# Altium schematic symbol library ST25RU3993_RF_MODULE.SCHLIB: 256 symbols (part 2 of 8)
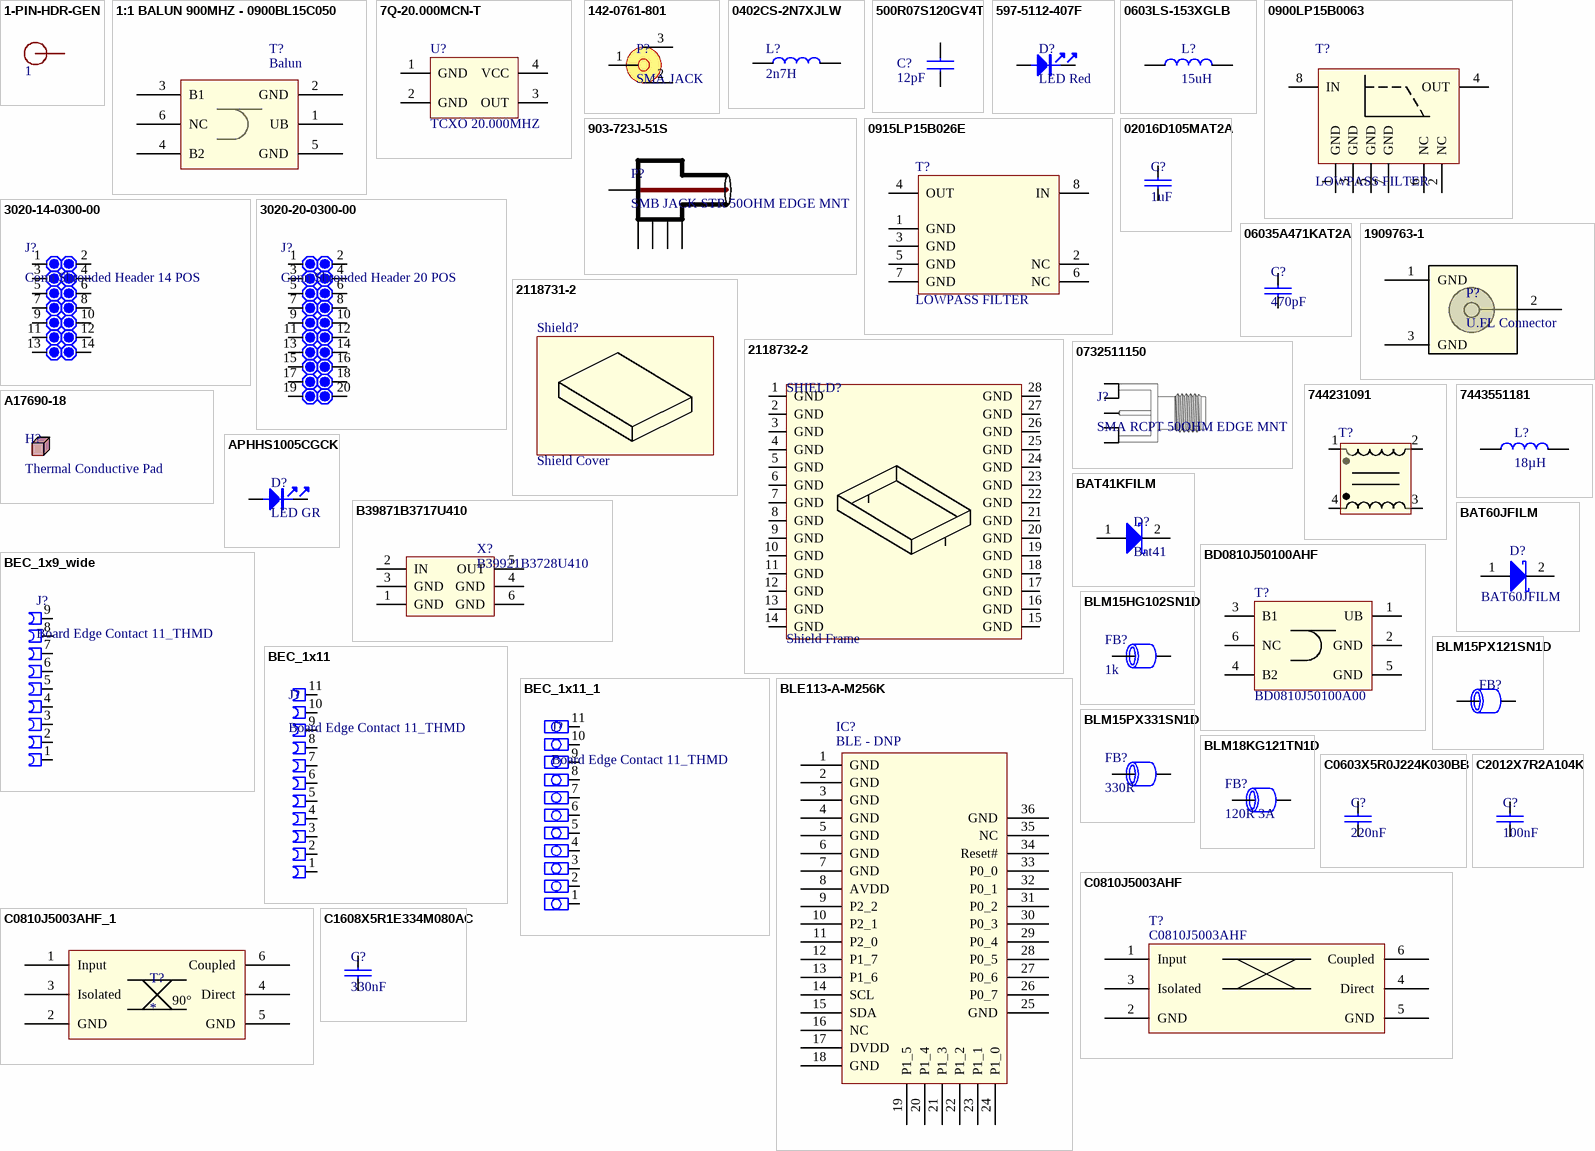
[diagram p7: symbols 1-PIN-HDR-GEN to C2012X7R2A104K]

## C1608X5R1E334M080AC
designator C?, comment 330nF
CAP CER 0.33UF 25V X5R 0603; Manufacturer: TDK; Manufacturer Part Number: C1608X5R1E334M080AC; Dielectric Material: Ceramic; Tolerance: 20%; Supplier 1: Digi-Key; Supplier Part Number 1: 445-5143-1-ND; RoHS: Yes; Stock: 37; Pricing: 1 = 0.14000, 10 = 0.10000, 100 = 0.04690, 500 = 0.03290, 1000 = 0.02724 (USD); Mount: Surface Mount; Case/Package: 0603; Number of Pins: 2; Weight: 7.1E-05oz; Case Code (Imperial): 0603; Case Code (Metric): 1608; Min Operating Temperature: -55°C; Max Operating Temperature: 85°C; Packaging: Tape and Reel; Capacitance: 330nF; Voltage Rating (DC): 25V; Voltage Rating: 25V; Dielectric: X5R; Termination: SMD/SMT; Package Quantity: 4000; Composition: Ceramic; Length: 1.6mm; Width: 0.8mm; Depth: 0.8mm; Thickness: 0.037inch; Lead Free: Lead Free; ComponentLink1URL: http://www.mouser.com/ds/2/400/lcc_commercial_general_en-837201.pdf; ComponentLink1Description: http://www.mouser.com/ds/2/400/lcc_commercial_general_en-837201.pdf; ComponentLink2URL: https://product.tdk.com/en/products/common/pdf/mlcc_partnumber_description.pdf; ComponentLink2Description: https://product.tdk.com/en/products/common/pdf/mlcc_partnumber_description.pdf; ComponentLink3URL: https://product.tdk.com/info/en/catalog/spec/mlccspec_commercial_general_midvoltage_en.pdf; ComponentLink3Description: https://product.tdk.com/info/en/catalog/spec/mlccspec_commercial_general_midvoltage_en.pdf; Supplier 2: Future Electronics; Supplier Part Number 2: C2012X7R2A104K125AA-CUTT; Radiation Hardening: No; REACH SVHC: No SVHC; ComponentLink4URL: https://www.verical.com/server-webapp/html/getDatasheet?partID=149415; ComponentLink4Description: https://www.verical.com/server-webapp/html/getDatasheet?partID=149415; ComponentLink5URL: http://components.arrow.com/part/dataview/41371923S8438219N1165; ComponentLink5Description: http://components.arrow.com/part/dataview/41371923S8438219N1165; ComponentLink6URL: http://www.onlinecomponents.com/productFiles/mf-TDK/517print_detail_pdf.phplangenpart_noc2012x7r2a104k125aaimp_unit_xmhz.pdf; ComponentLink6Description: http://www.onlinecomponents.com/productFiles/mf-TDK/517print_detail_pdf.phplangenpart_noc2012x7r2a104k125aaimp_unit_xmhz.pdf; ComponentLink7URL: http://www.farnell.com/datasheets/1484596.pdf; ComponentLink7Description: http://www.farnell.com/datasheets/1484596.pdf; ComponentLink8URL: http://www.tdk.com/pdf/general_B11.pdf; ComponentLink8Description: http://www.tdk.com/pdf/general_B11.pdf; ComponentLink9URL: http://www.farnell.com/datasheets/1936671.pdf; ComponentLink9Description: http://www.farnell.com/datasheets/1936671.pdf
footprint C0603
pins: 1, 2

## C2012X7R2A104K
designator C?, comment 100nF
Cap Ceramic 0.1uF 100V X7R 10% SMD 0805 125C; Manufacturer: TDK; Manufacturer Part Number: C2012X7R2A104K; Voltage Rating (DC): 50V; Supplier 1: Future Electronics; Supplier Part Number 1: C2012X7R2A104K125AA-CUTT; RoHS: Yes; Stock: 218; Pricing: 1 = 0.05800, 50 = 0.04900, 100 = 0.04800, 250 = 0.04600, 500 = 0.04200 (USD); Mount: Surface Mount; Case/Package: 0805; Number of Pins: 2; Case Code (Imperial): 0805; Case Code (Metric): 2012; Min Operating Temperature: -55°C; Max Operating Temperature: 125°C; Capacitance: 100nF; Tolerance: 10%; Voltage Rating: 100V; Dielectric: X7R; Packaging: Tape and Reel; Termination: SMD/SMT; Package Quantity: 2000; Length: 2mm; Depth: 1.25mm; Radiation Hardening: No; REACH SVHC: No SVHC; ComponentLink1URL: https://www.verical.com/server-webapp/html/getDatasheet?partID=149415; ComponentLink1Description: https://www.verical.com/server-webapp/html/getDatasheet?partID=149415; ComponentLink2URL: http://components.arrow.com/part/dataview/41371923S8438219N1165; ComponentLink2Description: http://components.arrow.com/part/dataview/41371923S8438219N1165; ComponentLink3URL: http://www.onlinecomponents.com/productFiles/mf-TDK/517print_detail_pdf.phplangenpart_noc2012x7r2a104k125aaimp_unit_xmhz.pdf; ComponentLink3Description: http://www.onlinecomponents.com/productFiles/mf-TDK/517print_detail_pdf.phplangenpart_noc2012x7r2a104k125aaimp_unit_xmhz.pdf; ComponentLink4URL: http://www.farnell.com/datasheets/1484596.pdf; ComponentLink4Description: http://www.farnell.com/datasheets/1484596.pdf; ComponentLink5URL: http://www.tdk.com/pdf/general_B11.pdf; ComponentLink5Description: http://www.tdk.com/pdf/general_B11.pdf; ComponentLink6URL: http://www.farnell.com/datasheets/1936671.pdf; ComponentLink6Description: http://www.farnell.com/datasheets/1936671.pdf; Supplier 2: Digi-Key; Supplier Part Number 2: 490-12752-1-ND; Voltage: 50V; Height: 0.85mm; Width: 0.049inch; Thickness: 0.037inch; ComponentLink7URL: http://search.murata.co.jp/Ceramy/image/img/A01X/partnumbering_e_01.pdf; ComponentLink7Description: http://search.murata.co.jp/Ceramy/image/img/A01X/partnumbering_e_01.pdf; ComponentLink8URL: http://www.mouser.com/ds/2/281/c02e-2905.pdf; ComponentLink8Description: http://www.mouser.com/ds/2/281/c02e-2905.pdf; ComponentLink9URL: http://psearch.murata.com/capacitor/product/GRM2195C1H133JA01%23.pdf; ComponentLink9Description: http://psearch.murata.com/capacitor/product/GRM2195C1H133JA01%23.pdf; ComponentLink10URL: http://datasheet.octopart.com/GRM2195C1H133JA01D-Murata-datasheet-14401791.pdf; ComponentLink10Description: http://datasheet.octopart.com/GRM2195C1H133JA01D-Murata-datasheet-14401791.pdf; ComponentLink11URL: http://datasheet.octopart.com/GRM2195C1H133JA01D-Murata-datasheet-8819587.pdf; ComponentLink11Description: http://datasheet.octopart.com/GRM2195C1H133JA01D-Murata-datasheet-8819587.pdf; ComponentLink12URL: http://datasheet.octopart.com/GRM2195C1H133JA01D-Murata-datasheet-10025737.pdf; ComponentLink12Description: http://datasheet.octopart.com/GRM2195C1H133JA01D-Murata-datasheet-10025737.pdf; ComponentLink13URL: http://datasheet.octopart.com/GRM2195C1H133JA01D-Murata-datasheet-11978611.pdf; ComponentLink13Description: http://datasheet.octopart.com/GRM2195C1H133JA01D-Murata-datasheet-11978611.pdf; ComponentLink14URL: http://datasheet.octopart.com/GRM2195C1H133JA01D-Murata-datasheet-12510076.pdf; ComponentLink14Description: http://datasheet.octopart.com/GRM2195C1H133JA01D-Murata-datasheet-12510076.pdf; ComponentLink15URL: http://datasheet.octopart.com/GRM2195C1H133JA01D-Murata-datasheet-12515295.pdf; ComponentLink15Description: http://datasheet.octopart.com/GRM2195C1H133JA01D-Murata-datasheet-12515295.pdf
footprint C0805-ss
pins: 1, 2

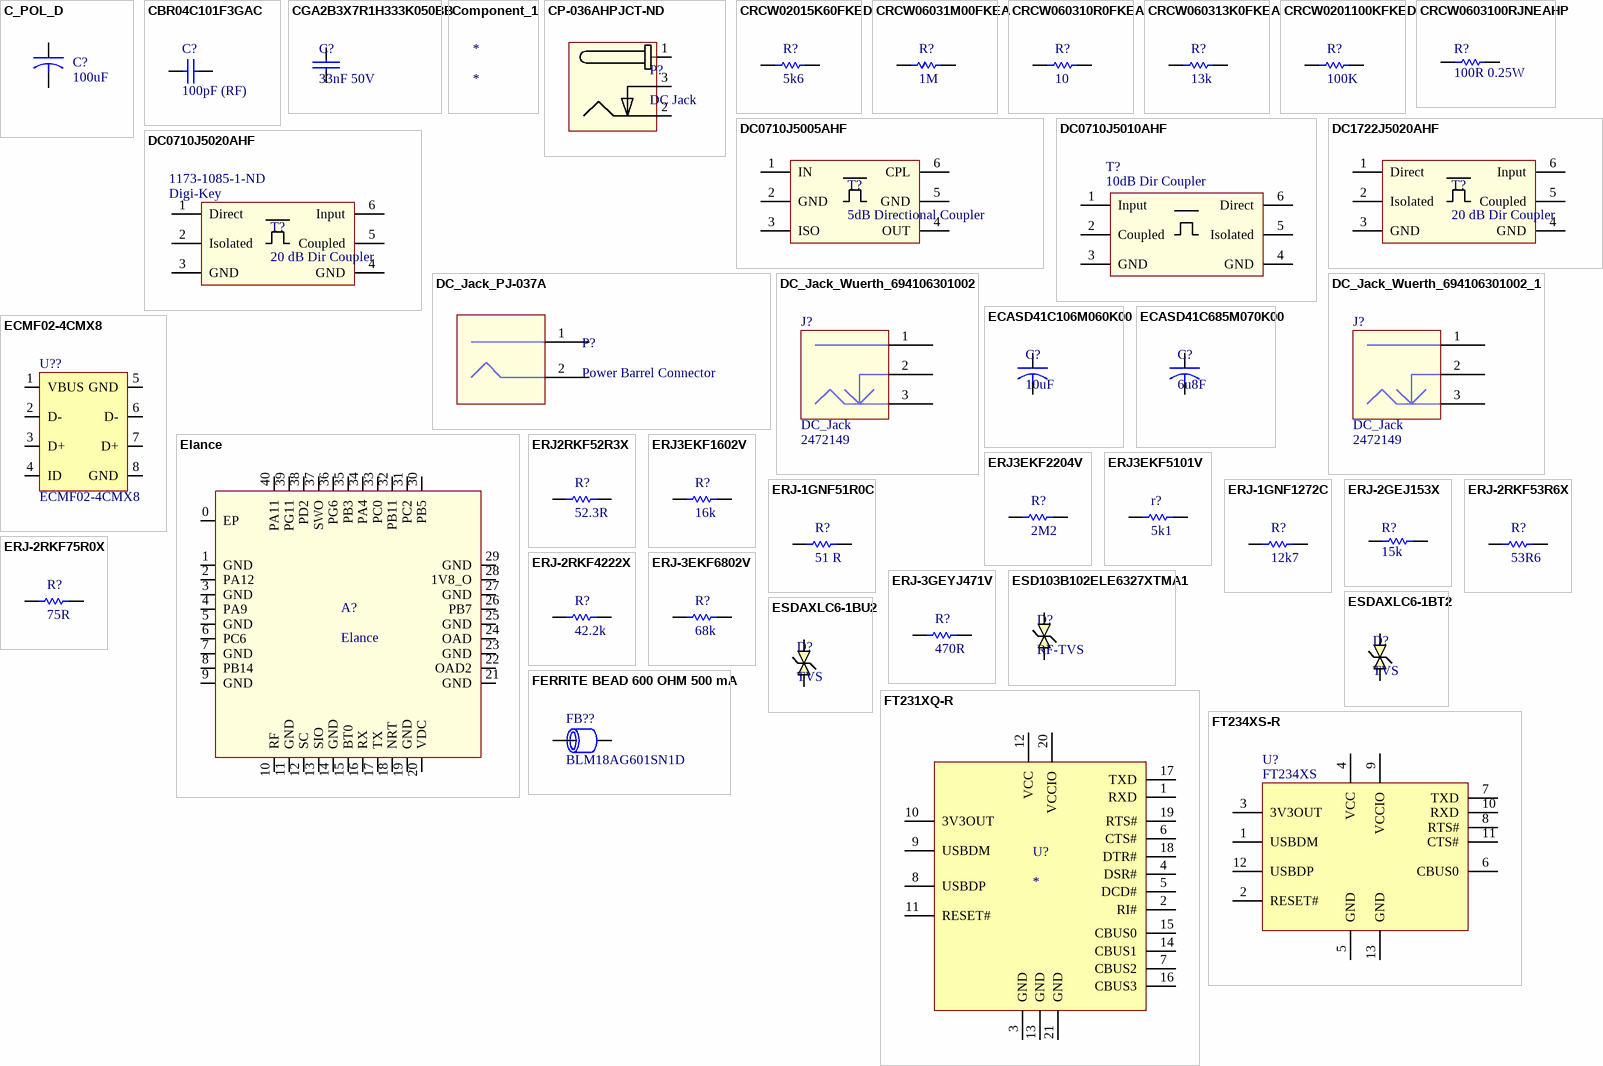
[diagram p1: symbols C_POL_D to FT234XS-R]

## C_POL_D
designator C?, comment 100uF
Manufacturer: Vishay Sprague; Manufacturer Part Number: TR3C107K010C0150; Manufacturer Size Code: C; Capacitance: 100µF; Voltage - Rated: 10V; Tolerance: ±10%; ESR (Equivalent Series Resistance): 150 mOhm; Type: Molded; Component_Description: 100uF, 10%, 10V, 150mOhm, SMD_C; Supplier 1: Digi-Key; Supplier Part Number 1: 718-1463-1-ND; RoHS: RoHS Compliant; Category: Capacitors; Stock 1: 12127; Pricing 1: 1=1.11, 10=0.914, 100=0.7355, 250=0.64632 (EUR); Operating Temperature: -55°C ~ 125°C; Mounting Type: Surface Mount; Package / Case: 2312 (6032 Metric); Size / Dimension: 0.236" L x 0.126" W (6.00mm x 3.20mm); Height - Seated (Max): 0.110" (2.79mm); Lead Spacing: -; Features: General Purpose; Packaging: Cut Tape (CT); Lifetime @ Temp.: -; ComponentLink1URL: http://www.vishay.com/doc?40080; ComponentLink1Description: http://www.vishay.com/doc?40080
footprint CP_SMD_C
footprint CP_SMD_D
pins: 1, 2

## CBR04C101F3GAC
designator C?, comment 100pF (RF)
CAP CER 100PF 25V NP0 0402; Manufacturer: Kemet; Manufacturer Part Number: CBR04C101F3GAC; Tolerance: ±1%; Temperature Coefficient: C0G, NP0; Type: Wirewound; Material - Core: Non-Magnetic; Inductance: 4.7nH; Current Rating: 750mA; Shielding: Unshielded; DC Resistance (DCR): 70 mOhm Max; Q @ Freq: 25 @ 250MHz; Frequency - Self Resonant: 8GHz; Frequency - Test: 100MHz; Exact Component Match: yes; Supplier 1: Digi-Key; Supplier Part Number 1: 399-11246-2-ND; RoHS: RoHS Compliant; Category: Capacitors; Stock 1: 70000; Pricing 1: 10000=0.07994, 20000=0.07744, 30000=0.07494, 50000=0.06995, 100000=0.06495 (EUR); Packaging: Tape & Reel (TR); Part Status: Active; Capacitance: 100pF; Voltage - Rated: 25V; Operating Temperature: -55°C ~ 125°C; Features: High Q, Low Loss; Ratings: -; Applications: RF, Microwave, High Frequency; Failure Rate: -; Mounting Type: Surface Mount, MLCC; Package / Case: 0402 (1005 Metric); Size / Dimension: 0.039" L x 0.020" W (1.00mm x 0.50mm); Height - Seated (Max): -; Thickness (Max): 0.022" (0.55mm); Lead Spacing: -; Lead Style: -; ComponentLink1URL: http://www.kemet.com/docfinder?Partnumber=CBR04C101F3GAC; ComponentLink1Description: http://www.kemet.com/docfinder?Partnumber=CBR04C101F3GAC; Supplier 2: Digi-Key; Supplier Part Number 2: 490-6825-1-ND; Stock 2: 30812; Pricing 2: 1=0.16, 10=0.149, 25=0.1336, 50=0.116, 100=0.104, 250=0.09652, 500=0.08912, 750=0.08467, 1000=0.07724 (EUR); Current - Saturation: -; ComponentLink2URL: http://search.murata.co.jp/Ceramy/image/img/PDF/ENG/L0075S0080LQW15A_00.pdf; ComponentLink2Description: http://search.murata.co.jp/Ceramy/image/img/PDF/ENG/L0075S0080LQW15A_00.pdf; Manufacturer 1: Kemet; Manufacturer Part Number 1: CBR04C101F3GAC
footprint C0402-RF
pins: 1, 2

## CGA2B3X7R1H333K050BB
designator C?, comment 33nF 50V
TDK         CGA2B3X7R1H333K050BB             SMD Multilayer Ceramic Capacitor, 0402 [1005 Metric], 0.033 F, 50 V,  10%, X7R, CGA Series; Exact Component Match: yes; Supplier 1: Digi-Key; Supplier Part Number 1: 445-6896-6-ND; Manufacturer: TDK; Manufacturer Part Number: CGA2B3X7R1H333K050BB; Stock: 0; Pricing: 1=0.13, 10=0.099, 100=0.0439, 500=0.03138, 1000=0.02465, 2500=0.02241, 5000=0.02062 (USD); Mount: Surface Mount; Case/Package: 0402; Weight: 2.3E-05oz; Case Code (Metric): 1005; Case Code (Imperial): 0402; Min Operating Temperature: -55°C; Max Operating Temperature: 125°C; Capacitance: 33nF; Tolerance: 10%; Dielectric: X7R; Voltage Rating: 50V; Packaging: Tape and Reel; Voltage Rating (DC): 50V; Termination: SMD/SMT; Package Quantity: 1; Composition: Ceramic; Length: 1mm; Height: 0.5mm; Depth: 0.5mm; Width: 0.02inch; Thickness: 0.022inch; Radiation Hardening: No; Lead Free: Lead Free; REACH SVHC: No SVHC; ComponentLink1URL: https://datasheet.ciiva.com/24219/cga2b3x7r1h333k050bb-265969-24219818.pdf; ComponentLink1Description: https://datasheet.ciiva.com/24219/cga2b3x7r1h333k050bb-265969-24219818.pdf; ComponentLink2URL: https://datasheet.ciiva.com/22703/1807242-22703014.pdf; ComponentLink2Description: https://datasheet.ciiva.com/22703/1807242-22703014.pdf; ComponentLink3URL: https://datasheet.ciiva.com/28563/1735392-28563961.pdf; ComponentLink3Description: https://datasheet.ciiva.com/28563/1735392-28563961.pdf; ComponentLink4URL: https://datasheet.ciiva.com/22725/1735392-22725629.pdf; ComponentLink4Description: https://datasheet.ciiva.com/22725/1735392-22725629.pdf
footprint C0402-RF
pins: 1, 2

## Component_1
designator *

## CP-036AHPJCT-ND
designator P?, comment DC Jack
PJ-036 Series 2 x 6.3 mm 16 V Horizontal SMT Power Jack; Manufacturer: CUI; Manufacturer Part Number: PJ-036AH-SMT-TR; Current Rating: 5A; Gender: Male; Shielding: Unshielded; Voltage Rating: 24V; Insulation Resistance: 100MR; Number of Conductors: 2; Supplier 1: Digi-Key; Supplier Part Number 1: CP-036AHPJCT-ND; RoHS: Yes; Stock: 9789; Pricing: 1 = 1.39000, 10 = 1.26100, 25 = 1.18400, 50 = 1.13260, 100 = 1.08110 (USD); Mount: Surface Mount; Case/Package: SMD/SMT; Color: Black; Contact Material: Brass,Copper; Contact Plating: Nickel,Silver; Housing Color: Black; Housing Material: Thermoplastic; Min Operating Temperature: -25°C; Max Operating Temperature: 85°C; Package Quantity: 1000; Termination: SMD/SMT; Connector Type: Jack; Contact Gender: Male; Packaging: Tape and Reel; Orientation: Horizontal; Lead Free: Lead Free; Flammability Rating: UL94 V-0
footprint CUI_PJ-036AH-SMT-TR
pins: 1, 2, 3

## CRCW02015K60FKED
designator R?, comment 5k6
RES SMD 5.6K OHM 1% 1/20W 0201; Manufacturer: Vishay Dale; Manufacturer Part Number: CRCW02015K60FKED; Resistance: 5.6kR; Max Power Dissipation: 50mW; Temperature Coefficient: 100ppm/°C; Voltage Rating: 30V; Supplier 1: Digi-Key; Supplier Part Number 1: 541-5.60KAABDKR-ND; Stock: 9370; Pricing: 1=0.24, 10=0.202, 100=0.0791, 1000=0.03311, 2500=0.03035, 5000=0.02842 (USD); Case/Package: 0201; Weight: 6E-06oz; Case Code (Metric): 0603; Case Code (Imperial): 0201; Contact Plating: Tin; Min Operating Temperature: -55°C; Max Operating Temperature: 155°C; Package Quantity: 1; Tolerance: 1%; Packaging: Tape and Reel; Composition: Thick Film; Number of Terminations: 2; Power Rating: 50mW; Military Standard: Not; Length: 0.6mm; Height: 0.011inch; Width: 0.012inch; Depth: 0.3mm; Lead Free: Lead Free; ComponentLink1URL: http://www.vishay.com/docs/20052/crcw0201e3.pdf; ComponentLink1Description: http://www.vishay.com/docs/20052/crcw0201e3.pdf
footprint R0201-RF
pins: 1, 2

## CRCW06031M00FKEA
designator R?, comment 1M
RES SMD 1M OHM 1% 1/10W 0603; Manufacturer: Vishay; Manufacturer Part Number: CRCW06031M00FKEA; Resistance: 1MR; Power Rating: 100mW; Temperature Coefficient: 100ppm/°C; Voltage Rating: 75V; Supplier 1: Future Electronics; Supplier Part Number 1: CRCW06031M00FKEA-CUTT; RoHS: Yes; Stock: 3165; Pricing: 1 = 0.01400, 100 = 0.01000, 250 = 0.00880, 500 = 0.00780, 1500 = 0.00700 (USD); Mount: Surface Mount; Case/Package: 0603; Number of Pins: 2; Weight: 7.1E-05oz; Case Code (Imperial): 0603; Case Code (Metric): 1608; Contact Plating: Tin; Min Operating Temperature: -55°C; Max Operating Temperature: 155°C; Tolerance: 1%; Packaging: Tape and Reel; Composition: Thick Film; Number of Terminations: 2; Package Quantity: 10; Max Power Dissipation: 100mW; Termination: SMD/SMT; Military Standard: Not; Voltage Rating (DC): 75V; Features: Automotive AEC-Q200; Length: 1.55mm; Height: 0.45mm; Width: 0.85mm; Depth: 0.85mm; Radiation Hardening: No; Lead Free: Lead Free; REACH SVHC: Unknown; ComponentLink1URL: http://uk.rs-online.com/webdocs/0d98/0900766b80d98afc.pdf; ComponentLink1Description: http://uk.rs-online.com/webdocs/0d98/0900766b80d98afc.pdf; ComponentLink2URL: https://www.distrelec.biz/Web/Downloads/a_/en/flD-CRCW-e3_data_en.pdf?mime=application%2Fpdf; ComponentLink2Description: https://www.distrelec.biz/Web/Downloads/a_/en/flD-CRCW-e3_data_en.pdf?mime=application%2Fpdf; ComponentLink3URL: http://www.vishay.com/docs/20035/dcrcwe3.pdf; ComponentLink3Description: http://www.vishay.com/docs/20035/dcrcwe3.pdf; ComponentLink4URL: http://www.farnell.com/datasheets/2111203.pdf; ComponentLink4Description: http://www.farnell.com/datasheets/2111203.pdf; ComponentLink5URL: http://www.farnell.com/datasheets/125364.pdf; ComponentLink5Description: http://www.farnell.com/datasheets/125364.pdf
footprint R0603-ss
pins: 1, 2

## CRCW060310R0FKEA
designator R?, comment 10
RES SMD 10 OHM 1% 1/10W 0603; Manufacturer: Vishay; Manufacturer Part Number: CRCW060310R0FKEA; Resistance: 10R; Temperature Coefficient: 100ppm/°C; Power Rating: 100mW; Voltage Rating (DC): 75V; Supplier 1: Digi-Key; Supplier Part Number 1: 541-10.0HCT-ND; RoHS: Yes; Stock: 164518; Pricing: 1 = 0.10000, 10 = 0.04200, 100 = 0.01700, 1000 = 0.00764, 2500 = 0.00663 (USD); Mount: Surface Mount; Case/Package: 0603; Number of Pins: 2; Weight: 7.1E-05oz; Case Code (Metric): 1608; Case Code (Imperial): 0603; Contact Plating: Tin; Min Operating Temperature: -55°C; Max Operating Temperature: 155°C; Composition: Thick Film; Tolerance: 1%; Packaging: Tape and Reel; Number of Terminations: 2; Max Power Dissipation: 100mW; Package Quantity: 10; Voltage Rating: 75V; Military Standard: Not; Termination: SMD/SMT; Features: Automotive AEC-Q200; Length: 1.55mm; Height: 0.45mm; Width: 0.033inch; Depth: 0.85mm; Lead Free: Lead Free; REACH SVHC: Unknown; ComponentLink1URL: http://www.vishay.com/docs/20035/dcrcwe3.pdf; ComponentLink1Description: http://www.vishay.com/docs/20035/dcrcwe3.pdf; ComponentLink2URL: http://uk.rs-online.com/webdocs/0d98/0900766b80d98afc.pdf; ComponentLink2Description: http://uk.rs-online.com/webdocs/0d98/0900766b80d98afc.pdf; ComponentLink3URL: https://www.distrelec.biz/Web/Downloads/a_/en/flD-CRCW-e3_data_en.pdf?mime=application%2Fpdf; ComponentLink3Description: https://www.distrelec.biz/Web/Downloads/a_/en/flD-CRCW-e3_data_en.pdf?mime=application%2Fpdf; ComponentLink4URL: http://www.alliedelec.com/m/d/0c934d6939ccefa68dbe0b96d821c8cf.pdf; ComponentLink4Description: http://www.alliedelec.com/m/d/0c934d6939ccefa68dbe0b96d821c8cf.pdf; ComponentLink5URL: http://www.mouser.com/ds/2/427/dcrcwe3-109170.pdf; ComponentLink5Description: http://www.mouser.com/ds/2/427/dcrcwe3-109170.pdf; ComponentLink6URL: http://www.farnell.com/datasheets/2045673.pdf; ComponentLink6Description: http://www.farnell.com/datasheets/2045673.pdf
footprint R0603-ss
pins: 1, 2

## CRCW060313K0FKEA
designator R?, comment 13k
RES SMD 13K OHM 1% 1/10W 0603; Manufacturer: Vishay; Manufacturer Part Number: CRCW060313K0FKEA; Resistance: 13kR; Power Rating: 100mW; Voltage Rating: 75V; Temperature Coefficient: 100ppm/°C; Supplier 1: Arrow; Supplier Part Number 1: CRCW060313K0FKEA; RoHS: Yes; Stock: 4205; Pricing: 1 = 0.00190, 100 = 0.00180, 3000 = 0.00170 (USD); Mount: Surface Mount; Case/Package: 0603; Number of Pins: 2; Weight: 7.1E-05oz; Case Code (Imperial): 0603; Case Code (Metric): 1608; Contact Plating: Tin; Min Operating Temperature: -55°C; Max Operating Temperature: 155°C; Tolerance: 1%; Packaging: Tape and Reel; Composition: Thick Film; Voltage Rating (DC): 75V; Package Quantity: 10; Termination: SMD/SMT; Number of Terminations: 2; Max Power Dissipation: 100mW; Military Standard: Not; Features: Automotive AEC-Q200; Length: 1.55mm; Height: 0.45mm; Width: 0.85mm; Depth: 0.85mm; Radiation Hardening: No; Lead Free: Lead Free; REACH SVHC: Unknown; ComponentLink1URL: http://uk.rs-online.com/webdocs/0d98/0900766b80d98afc.pdf; ComponentLink1Description: http://uk.rs-online.com/webdocs/0d98/0900766b80d98afc.pdf; ComponentLink2URL: https://www.distrelec.biz/Web/Downloads/a_/en/flD-CRCW-e3_data_en.pdf?mime=application%2Fpdf; ComponentLink2Description: https://www.distrelec.biz/Web/Downloads/a_/en/flD-CRCW-e3_data_en.pdf?mime=application%2Fpdf; ComponentLink3URL: http://www.farnell.com/datasheets/2045673.pdf; ComponentLink3Description: http://www.farnell.com/datasheets/2045673.pdf; ComponentLink4URL: http://www.vishay.com/docs/20035/dcrcwe3.pdf; ComponentLink4Description: http://www.vishay.com/docs/20035/dcrcwe3.pdf; ComponentLink5URL: https://www.alliedelec.com/m/d/0c934d6939ccefa68dbe0b96d821c8cf.pdf; ComponentLink5Description: https://www.alliedelec.com/m/d/0c934d6939ccefa68dbe0b96d821c8cf.pdf; Supplier 2: Arrow; Supplier Part Number 2: RC0603FR-0768KL; ComponentLink6URL: http://www.yageo.com/documents/recent/PYu-RC_Group_51_RoHS_L_9.pdf; ComponentLink6Description: http://www.yageo.com/documents/recent/PYu-RC_Group_51_RoHS_L_9.pdf; ComponentLink7URL: http://www.yageo.com/documents/recent/PYu-RC_Group_51_RoHS_L_10.pdf; ComponentLink7Description: http://www.yageo.com/documents/recent/PYu-RC_Group_51_RoHS_L_10.pdf; ComponentLink8URL: http://documents.rs-components.com/techlib://itc_doclist_GB.htm?stockno=5048243; ComponentLink8Description: http://documents.rs-components.com/techlib://itc_doclist_GB.htm?stockno=5048243; ComponentLink9URL: http://www.farnell.com/datasheets/1868787.pdf; ComponentLink9Description: http://www.farnell.com/datasheets/1868787.pdf; ComponentLink10URL: http://www.farnell.com/datasheets/443971.pdf; ComponentLink10Description: http://www.farnell.com/datasheets/443971.pdf; ComponentLink11URL: http://www.farnell.com/datasheets/2167052.pdf; ComponentLink11Description: http://www.farnell.com/datasheets/2167052.pdf
footprint R0603-ss
pins: 1, 2

## CRCW0201100KFKED
designator R?, comment 100K
RES SMD 100K OHM 1% 1/20W 0201; Manufacturer: Vishay Dale; Manufacturer Part Number: CRCW0201100KFKED; Resistance: 100kR; Max Power Dissipation: 50mW; Temperature Coefficient: 100ppm/°C; Voltage Rating (DC): 30V; Supplier 1: Digi-Key; Supplier Part Number 1: 541-100KAABDKR-ND; Stock: 0; Pricing: 1=0.24, 10=0.202, 100=0.0791, 1000=0.03311, 2500=0.03035, 5000=0.02842 (USD); Case/Package: 0201; Number of Pins: 2; Weight: 6E-06oz; Case Code (Imperial): 0201; Case Code (Metric): 0603; Contact Plating: Tin; Min Operating Temperature: -55°C; Max Operating Temperature: 155°C; Tolerance: 1%; Packaging: Tape and Reel; Package Quantity: 1; Power Rating: 50mW; Composition: Thick Film; Number of Terminations: 2; Termination: SMD/SMT; Voltage Rating: 30V; Military Standard: Not; Length: 0.6mm; Height: 0.011inch; Width: 0.3mm; Depth: 0.3mm; Radiation Hardening: No; Lead Free: Lead Free; REACH SVHC: Unknown; ComponentLink1URL: http://www.vishay.com/docs/20052/crcw0201e3.pdf; ComponentLink1Description: http://www.vishay.com/docs/20052/crcw0201e3.pdf; ComponentLink2URL: http://www.farnell.com/datasheets/2045973.pdf; ComponentLink2Description: http://www.farnell.com/datasheets/2045973.pdf; ComponentLink3URL: http://www.vishay.com/docs/20035/dcrcwe3.pdf; ComponentLink3Description: http://www.vishay.com/docs/20035/dcrcwe3.pdf; Supplier 2: Digi-Key; Supplier Part Number 2: 541-5.60KAABDKR-ND
footprint R0201-RF
pins: 1, 2

## CRCW0603100RJNEAHP
designator R?, comment 100R 0.25W
RES SMD 100 OHM 5% 1/4W 0603; Manufacturer 1: Vishay Dale; Manufacturer Part Number 1: CRCW0603100RJNEAHP; Resistance (Ohms): 100; Power (Watts): 0.25W, 1/4W; Temperature Coefficient: ±200ppm/°C; Exact Component Match: no; Supplier 1: Digi-Key; Supplier Part Number 1: 541-100SADKR-ND; RoHS: RoHS Compliant; Category: Resistors; Stock 1: 9682; Pricing 1: 1=0.14, 10=0.116, 25=0.0848, 50=0.0614, 100=0.0456, 250=0.03496, 500=0.02754, 1000=0.01908, 2500=0.01748 (EUR); Packaging: Digi-Reel®; Part Status: Active; Tolerance: ±5%; Composition: Thick Film; Features: Automotive AEC-Q200, Pulse Withstanding; Operating Temperature: -55°C ~ 155°C; Package / Case: 0603 (1608 Metric); Supplier Device Package: 0603; Size / Dimension: 0.063" L x 0.033" W (1.60mm x 0.85mm); Height - Seated (Max): 0.020" (0.50mm); Number of Terminations: 2; Failure Rate: -; ComponentLink1URL: http://www.vishay.com/docs/20043/crcwhpe3.pdf; ComponentLink1Description: http://www.vishay.com/docs/20043/crcwhpe3.pdf; Manufacturer: Vishay Dale; Manufacturer Part Number: CRCW0603100RJNEAHP
footprint C0603
pins: 1, 2

## DC0710J5005AHF
designator T?, comment 5dB Directional Coupler
Signal Conditioning 700-1000MHz IL .6dB Mn Coupling 5dB Typ.; Manufacturer: Anaren; Manufacturer Part Number: DC0710J5005AHF; Frequency: 700MHz; Insertion Loss: 0.6dB; Max Power Dissipation: 2W; Return Loss: -24dB; Exact Component Match: Yes; Supplier 1: Digi-Key; Supplier Part Number 1: DC0710J5005AHF-ND; Stock: 0; Pricing: 4000=0.46 (USD); Case/Package: 0805; Packaging: Tape and Reel; Package Quantity: 4000; ComponentLink1URL: http://www.mouser.com/ds/2/21/DC0710J5005AHF_Datasheet_RevA-469174.pdf; ComponentLink1Description: http://www.mouser.com/ds/2/21/DC0710J5005AHF_Datasheet_RevA-469174.pdf; ComponentLink2URL: https://www.anaren.com/sites/default/files/Part-Datasheets/DC0710J5005AHF_Datasheet_RevB.pdf; ComponentLink2Description: https://www.anaren.com/sites/default/files/Part-Datasheets/DC0710J5005AHF_Datasheet_RevB.pdf
footprint DC0710J5005AHF (5dB - Directional Coupler)
pins: 1 IN, 2 GND, 3 ISO, 4 OUT, 5 GND, 6 CPL

## DC0710J5010AHF
designator T?, comment 10dB Dir Coupler
Directional Coupler; Manufacturer: Anaren; Manufacturer Part Number: DC0710J5010AHF; Coupler Type: Standard; Frequency: 700MHz ~ 1GHz; Coupling Factor: 10.9dB; Insertion Loss: 0.21dB; Power - Max: 2W; Return Loss: 17.5dB; Supplier 1: Digi-Key; Supplier Part Number 1: 1173-1084-1-ND; RoHS: RoHS Compliant; Category: RF/IF and RFID; Stock: 28051; Pricing: 1=0.74, 10=0.654, 25=0.5904, 100=0.5167, 250=0.45344, 500=0.4007 (EUR); Packaging: Cut Tape (CT); Part Status: Active; Applications: General Purpose; Isolation: -; Package / Case: 0805 (2012 Metric); Supplier Device Package: 0805; ComponentLink1URL: https://cdn.anaren.com/product-documents/Xinger/DirectionalCouplers/DC0710J5010AHF/DC0710J5010AHF_DataSheet(Rev_B).pdf; ComponentLink1Description: https://cdn.anaren.com/product-documents/Xinger/DirectionalCouplers/DC0710J5010AHF/DC0710J5010AHF_DataSheet(Rev_B).pdf
footprint DC0710J5010AHF (Directional Coupler)
pins: 1 Input, 2 Coupled, 3 GND, 4 GND, 5 Isolated, 6 Direct

## DC0710J5020AHF
designator T?, comment 20 dB Dir Coupler  Supplier 1: Digi-Key  Supplier Part Number 1: 1173-1085-1-ND
COUPLER 20DB 700-1000MHZ 0805; Manufacturer: Anaren; Manufacturer Part Number: DC0710J5020AHF; Frequency: 700MHz; Insertion Loss: 0.22dB; Max Power Dissipation: 2W; Return Loss: 21.41dB; Stock 1: 12905; RoHS: Yes; Mount: Surface Mount; Case/Package: 0805; Number of Pins: 6; Case Code (Metric): 2012; Case Code (Imperial): 0805; Contact Plating: Gold; Min Operating Temperature: -55°C; Max Operating Temperature: 85°C; Package Quantity: 4000; Packaging: Tape and Reel; Termination: SMD/SMT; ComponentLink1URL: https://datasheet.ciiva.com/2794/dc0710j5020ahf-data20sheet-revd-2794214.pdf?src-supplier=Digi-Key; ComponentLink1Description: https://datasheet.ciiva.com/2794/dc0710j5020ahf-data20sheet-revd-2794214.pdf?src-supplier=Digi-Key; ComponentLink2URL: https://datasheet.ciiva.com/4548/dc0710j5020ahf-data20sheet-revd-26973-4548407.pdf?src-supplier=Mouser; ComponentLink2Description: https://datasheet.ciiva.com/4548/dc0710j5020ahf-data20sheet-revd-26973-4548407.pdf?src-supplier=Mouser; ComponentLink3URL: https://datasheet.ciiva.com/2794/dc0710j5020ahf-datasheet-revd-2794215.pdf?src-supplier=Digi-Key; ComponentLink3Description: https://datasheet.ciiva.com/2794/dc0710j5020ahf-datasheet-revd-2794215.pdf?src-supplier=Digi-Key; ComponentLink4URL: https://datasheet.ciiva.com/15213/getdatasheetpartid-559400-15213447.pdf?src-supplier=Verical; ComponentLink4Description: https://datasheet.ciiva.com/15213/getdatasheetpartid-559400-15213447.pdf?src-supplier=Verical; ComponentLink5URL: https://datasheet.ciiva.com/2794/dc0710j5020ahf-datasheet-revd-2794216.pdf?src-supplier=Digi-Key; ComponentLink5Description: https://datasheet.ciiva.com/2794/dc0710j5020ahf-datasheet-revd-2794216.pdf?src-supplier=Digi-Key
footprint DC0710J5010AHF (Directional Coupler)
pins: 1 Direct, 2 Isolated, 3 GND, 4 GND, 5 Coupled, 6 Input

## DC1722J5020AHF
designator T?, comment 20 dB Dir Coupler
COUPLER 20DB 1700-2200MHZ 0805; Manufacturer: Anaren; Manufacturer Part Number: DC1722J5020AHF; Coupler Type: Standard; Frequency: 1.7GHz ~ 2.2GHz; Coupling Factor: 19.9dB; Insertion Loss: 0.17dB; Power - Max: 2W; Return Loss: 22.5dB; Supplier 1: Digi-Key; Supplier Part Number 1: 1173-1088-1-ND; RoHS: RoHS Compliant; Category: RF/IF and RFID; Stock: 6650; Pricing: 1=0.75, 10=0.663, 25=0.5988, 100=0.524, 250=0.45988, 500=0.4064 (EUR); Packaging: Cut Tape (CT); Part Status: Active; Applications: General Purpose; Isolation: -; Package / Case: 0805 (2012 Metric); Supplier Device Package: 0805 (2012 Metric); ComponentLink1URL: https://www.anaren.com/sites/default/files/DC1722J5020AHF_Datasheet_RevC.pdf; ComponentLink1Description: https://www.anaren.com/sites/default/files/DC1722J5020AHF_Datasheet_RevC.pdf
footprint DC0710J5010AHF (Directional Coupler)
pins: 1 Direct, 2 Isolated, 3 GND, 4 GND, 5 Coupled, 6 Input

## DC_Jack_PJ-037A
designator P?, comment Power Barrel Connector
PJ-037 Series 2 x 6.5 mm 16V Right Angle Through Hole Power Jack w/o Switch; Manufacturer: CUI; Manufacturer Part Number: PJ-037A; Gender: Male; Shielding: Unshielded; Current Rating: 2.5A; Voltage Rating: 24V; Insulation Resistance: 100MR; Number of Conductors: 2; Supplier 1: Digi-Key; Supplier Part Number 1: CP-037A-ND; Stock: 54513; Pricing: 1=0.58, 10=0.543, 25=0.4888, 50=0.4344, 100=0.4163, 250=0.38012, 500=0.362, 1000=0.29865, 2500=0.2715 (USD); Mount: Through Hole; Colour: Black; Contact Material: Copper; Contact Plating: Nickel; Housing Colour: Black; Housing Material: Thermoplastic; Min Operating Temperature: -25°C; Max Operating Temperature: 85°C; Package Quantity: 500; Termination: Through Hole; Connector Type: Jack; Contact Gender: Male; Orientation: Horizontal; Lead Free: Lead Free; Flammability Rating: UL94 V-0; ComponentLink1URL: https://www.cui.com/product/resource/digikeypdf/pj-037a.pdf; ComponentLink1Description: https://www.cui.com/product/resource/digikeypdf/pj-037a.pdf; ComponentLink2URL: http://www.mouser.com/ds/2/670/pj-037a-516020.pdf; ComponentLink2Description: http://www.mouser.com/ds/2/670/pj-037a-516020.pdf; ComponentLink3URL: http://www.cui.com/Product/Resource/FuturePDF/PJ-037A.pdf; ComponentLink3Description: http://www.cui.com/Product/Resource/FuturePDF/PJ-037A.pdf
footprint DC_Jack_CUI (Power Barrel Connector Jack 2.10mm ID (0.083"), 5.50mm OD (0.217") Through Hole, Right Angle)
pins: 1, 2

## DC_Jack_Wuerth_694106301002
designator J?, comment DC_Jack  Supplier Part Number 1: 2472149
WURTH ELEKTRONIK - 694106301002 - NETZANSCHLUSSBUCHSE, 3A, 20VDC; Ausführung: Buchse; Nennstrom: 5; Pindurchmesser: 2; Steckverbindermontage: Durchsteckmontage; Außendurchmesser d. Hohlsteckers: 6.4; Nennspannung: 24; Produktpalette: -<!--FANDB--><div class="features-and-benefits-container"><div class="features-and-benefits-description"><span class="features-benefits-value">The 694106301002 is a 5A black through-hole right angle Power Jack, stamped contacts. This WR-DC series power jack with copper alloy contacts, PA66 insulator.</span></div><div class="features-and-benefits-list"><ul class="features-and-benefits-list-list"><li class="features-and-benefits-list-item">24VDC Voltage rating</li><li class="features-and-benefits-list-item">2mm Inner diameter</li><li class="features-and-benefits-list-item">6.4mm Outer diameter</li><li class="features-and-benefits-list-item">UL94V-0 Flammability rating</li><li class="features-and-benefits-list-item">JEDEC lead-free wave soldering</li></ul></div><div class="features-and-benefits-applications"><ul class="features-and-benefits-value"><li class="features-and-benefits-list-item">Power-Management</li></ul></div></div>; Frequency: 100MHz ~ 2.5GHz; RF Type: Cellular, TDMA, CDMA, GPRS, GSM; Input Range: -45dBm ~ 0dBm; Voltage - Supply: 2.7 V ~ 5 V; Tolerance: ±1%; Power (Watts): 0.1W, 1/10W; Temperature Coefficient: ±100ppm/°C; Supplier 1: Farnell; Manufacturer: WURTH ELEKTRONIK; Manufacturer Part Number: 694106301002; RoHS: YES; Pricing 1: 1=0.9, 10=0.86, 25=0.82, 50=0.78, 100=0.717, 250=0.53 (EUR); Länge des Hohlsteckers: -; Innendurchmesser d. Hohlsteckers: -; Kontaktanschluss: Durchsteckmontage; ComponentLink1URL: http://www.farnell.com/cad/2130967.pdf; ComponentLink1Description: http://www.farnell.com/cad/2130967.pdf; Supplier 2: Digi-Key; Supplier Part Number 2: MAX4003EUA+TCT-ND; Category: RF/IF and RFID; Stock: 3148; Pricing: 1=2.36, 10=2.23, 25=1.7836, 50=1.6944, 100=1.5606, 250=1.48032, 500=1.4268 (EUR); Packaging: Cut Tape (CT); Part Status: Active; Accuracy: -; Package / Case: 8-TSSOP, 8-MSOP (0.118", 3.00mm Width); Supplier Device Package: 8-uMAX; ComponentLink2URL: http://datasheets.maximintegrated.com/en/ds/MAX4003.pdf; ComponentLink2Description: http://datasheets.maximintegrated.com/en/ds/MAX4003.pdf; Supplier 3: Digi-Key; Supplier Part Number 3: P42.2KLCT-ND; Composition: Thick Film; Features: Automotive AEC-Q200; Operating Temperature: -55°C ~ 155°C; Size / Dimension: 0.039" L x 0.020" W (1.00mm x 0.50mm); Height - Seated (Max): 0.016" (0.40mm); Failure Rate: -; ComponentLink3URL: https://industrial.panasonic.com/cdbs/www-data/pdf/RDA0000/AOA0000C304.pdf; ComponentLink3Description: https://industrial.panasonic.com/cdbs/www-data/pdf/RDA0000/AOA0000C304.pdf
footprint SOCKET_THMD_DC_21
pins: 1, 2, 3

## DC_Jack_Wuerth_694106301002_1
designator J?, comment DC_Jack  Supplier Part Number 1: 2472149
WURTH ELEKTRONIK - 694106301002 - NETZANSCHLUSSBUCHSE, 3A, 20VDC; Ausführung: Buchse; Nennstrom: 5; Pindurchmesser: 2; Steckverbindermontage: Durchsteckmontage; Außendurchmesser d. Hohlsteckers: 6.4; Nennspannung: 24; Produktpalette: -<!--FANDB--><div class="features-and-benefits-container"><div class="features-and-benefits-description"><span class="features-benefits-value">The 694106301002 is a 5A black through-hole right angle Power Jack, stamped contacts. This WR-DC series power jack with copper alloy contacts, PA66 insulator.</span></div><div class="features-and-benefits-list"><ul class="features-and-benefits-list-list"><li class="features-and-benefits-list-item">24VDC Voltage rating</li><li class="features-and-benefits-list-item">2mm Inner diameter</li><li class="features-and-benefits-list-item">6.4mm Outer diameter</li><li class="features-and-benefits-list-item">UL94V-0 Flammability rating</li><li class="features-and-benefits-list-item">JEDEC lead-free wave soldering</li></ul></div><div class="features-and-benefits-applications"><ul class="features-and-benefits-value"><li class="features-and-benefits-list-item">Power-Management</li></ul></div></div>; Frequency: 100MHz ~ 2.5GHz; RF Type: Cellular, TDMA, CDMA, GPRS, GSM; Input Range: -45dBm ~ 0dBm; Voltage - Supply: 2.7 V ~ 5 V; Tolerance: ±1%; Power (Watts): 0.1W, 1/10W; Temperature Coefficient: ±100ppm/°C; Filter Type: Power Line; Current Rating (Max): 2A; DC Resistance (DCR) (Max): 55 mOhm; Supplier 1: Farnell; Manufacturer: WURTH ELEKTRONIK; Manufacturer Part Number: 694106301002; RoHS: YES; Pricing 1: 1=0.9, 10=0.86, 25=0.82, 50=0.78, 100=0.717, 250=0.53 (EUR); Länge des Hohlsteckers: -; Innendurchmesser d. Hohlsteckers: -; Kontaktanschluss: Durchsteckmontage; ComponentLink1URL: http://www.farnell.com/cad/2130967.pdf; ComponentLink1Description: http://www.farnell.com/cad/2130967.pdf; Supplier 2: Digi-Key; Supplier Part Number 2: MAX4003EUA+TCT-ND; Category: RF/IF and RFID; Stock: 3148; Pricing: 1=2.36, 10=2.23, 25=1.7836, 50=1.6944, 100=1.5606, 250=1.48032, 500=1.4268 (EUR); Packaging: Cut Tape (CT); Part Status: Active; Accuracy: -; Package / Case: 8-TSSOP, 8-MSOP (0.118", 3.00mm Width); Supplier Device Package: 8-uMAX; ComponentLink2URL: http://datasheets.maximintegrated.com/en/ds/MAX4003.pdf; ComponentLink2Description: http://datasheets.maximintegrated.com/en/ds/MAX4003.pdf; Supplier 3: Digi-Key; Supplier Part Number 3: P42.2KLCT-ND; Composition: Thick Film; Features: Automotive AEC-Q200; Operating Temperature: -55°C ~ 155°C; Size / Dimension: 0.039" L x 0.020" W (1.00mm x 0.50mm); Height - Seated (Max): 0.016" (0.40mm); Failure Rate: -; ComponentLink3URL: https://industrial.panasonic.com/cdbs/www-data/pdf/RDA0000/AOA0000C304.pdf; ComponentLink3Description: https://industrial.panasonic.com/cdbs/www-data/pdf/RDA0000/AOA0000C304.pdf; Supplier 4: Digi-Key; Supplier Part Number 4: 490-9656-1-ND; Ratings: -; Mounting Type: Surface Mount; Height (Max): 0.022" (0.55mm); ComponentLink4URL: https://www.murata.com/en-us/products/productdata/8796740059166/ENFA0018.pdf; ComponentLink4Description: https://www.murata.com/en-us/products/productdata/8796740059166/ENFA0018.pdf
footprint SOCKET_THMD_DC_21
pins: 1, 2, 3

## ECASD41C106M060K00
designator C?, comment 10uF
CAP POLYMER 10UF 20% 16V SMD; Manufacturer: Murata; Manufacturer Part Number: ECASD41C106M060K00; Product Training Modules: Polymer Aluminum Electrolytic Capacitors Using Murata's Polymer Aluminum Capacitors to Replace Tantalum; Catalog Drawings: ECAS Series End_D4 ECAS Series Side; Featured Product: ECAS Series Polymer Aluminum Electrolytic Capacitors; EDA / CAD Models: Download from Accelerated Designs; Capacitance: 10µF; ESR (Equivalent Series Resistance): 60 mOhm @ 100kHz; Lifetime @ Temp.: 1000 Hrs @ 105°C; Polarization: Polar; Ripple Current: 1A; Surface Mount Land Size: 0.287" L x 0.169" W (7.30mm x 4.30mm); Online Catalog: ECAS Series; Other Names: 490-5482-2; Supplier 2: Distrelec; Stock: 2288; Pricing 1: 1=0.51, 50=0.46, 250=0.41 (EUR); Standard Package: 3,000; Category: Capacitors; Family: Aluminum - Polymer Capacitors; Series: ECAS; Packaging: Tape & Reel (TR); Tolerance: ±20%; Voltage Rating: 16V; Operating Temperature: -40°C ~ 105°C; Applications: General Purpose; Size / Dimension: 0.287" L x 0.169" W (7.30mm x 4.30mm); Height - Seated (Max): 0.075" (1.90mm); Mounting Type: Surface Mount; Package / Case: 2917 (7343 Metric); ComponentLink1URL: https://datasheet.ciiva.com/93/c90e-93987.pdf; ComponentLink1Description: https://datasheet.ciiva.com/93/c90e-93987.pdf; ComponentLink2URL: https://datasheet.ciiva.com/26889/getdatasheetpartid-716590-26889066.pdf; ComponentLink2Description: https://datasheet.ciiva.com/26889/getdatasheetpartid-716590-26889066.pdf; ComponentLink3URL: https://datasheet.ciiva.com/93/c90e-93985.pdf; ComponentLink3Description: https://datasheet.ciiva.com/93/c90e-93985.pdf; ComponentLink4URL: https://datasheet.ciiva.com/93/c90e-93986.pdf; ComponentLink4Description: https://datasheet.ciiva.com/93/c90e-93986.pdf; ComponentLink5URL: https://datasheet.ciiva.com/14113/ecas-eng-ds-14113434.pdf; ComponentLink5Description: https://datasheet.ciiva.com/14113/ecas-eng-ds-14113434.pdf; Supplier Part Number 2: 16705082; Supplier 1: Digi-Key; Supplier Part Number 1: 490-5482-1-ND
footprint 2917(7343) (Chip Capacitor, 2-Leads, Body 7,30x4,30mm, IPC Medium Density)
pins: 1, 2

## ECASD41C685M070K00
designator C?, comment 6u8F
CAP ALUM POLY 6.8UF 20% 16V SMD; Manufacturer: Murata Electronics North America; Manufacturer Part Number: ECASD41C685M070K00; Type: Polymer; ESR (Equivalent Series Resistance): 70 mOhm; Lifetime @ Temp.: 1000 Hrs @ 105°C; Ripple Current - High Frequency: 1A @ 100kHz; Surface Mount Land Size: 0.287" L x 0.169" W (7.30mm x 4.30mm); Resistance: 27R; Temperature Coefficient: 200ppm/°C; Max Power Dissipation: 50mW; Supplier 1: Digi-Key; RoHS: RoHS Compliant; Category: Capacitors; Stock: 1417; Pricing 1: 1=1.25, 10=0.984, 100=0.7379, 500=0.55756, 1000=0.49196 (EUR); Packaging: Cut Tape (CT); Part Status: Active; Tolerance: ±20%; Operating Temperature: -40°C ~ 105°C; Applications: General Purpose; Ripple Current - Low Frequency: -; Lead Spacing: -; Size / Dimension: 0.287" L x 0.169" W (7.30mm x 4.30mm); Height - Seated (Max): 0.075" (1.90mm); Mounting Type: Surface Mount; Package / Case: 2917 (7343 Metric); ComponentLink1URL: http://www.murata.com/~/media/webrenewal/support/library/catalog/products/capacitor/polymer/c90e.ashx; ComponentLink1Description: http://www.murata.com/~/media/webrenewal/support/library/catalog/products/capacitor/polymer/c90e.ashx; Supplier Part Number 1: 490-5481-1-ND; Supplier 2: Digi-Key; Supplier Part Number 2: YAG2291CT-ND; Pricing: 1=0.1, 10=0.032, 100=0.0132, 1000=0.00591, 2500=0.00513, 5000=0.00424 (USD); Case/Package: 0201; Case Code (Metric): 0603; Case Code (Imperial): 0201; Contact Plating: Tin,Matte; Min Operating Temperature: -55°C; Max Operating Temperature: 125°C; Composition: Thick Film; Number of Terminations: 2; Package Quantity: 10000; Power Rating: 50mW; Length: 0.024inch; Height: 0.01inch; Width: 0.012inch; Radiation Hardening: No; Lead Free: Lead Free; ComponentLink2URL: https://datasheet.ciiva.com/28401/pyu-rc0201-51-rohs-l-8-28401384.pdf; ComponentLink2Description: https://datasheet.ciiva.com/28401/pyu-rc0201-51-rohs-l-8-28401384.pdf; ComponentLink3URL: https://datasheet.ciiva.com/8889/pyu-rc0201-51-rohs-l-8-8889868.pdf; ComponentLink3Description: https://datasheet.ciiva.com/8889/pyu-rc0201-51-rohs-l-8-8889868.pdf; ComponentLink4URL: https://datasheet.ciiva.com/16855/pyu-rc0201-51-rohs-l-8-16855356.pdf; ComponentLink4Description: https://datasheet.ciiva.com/16855/pyu-rc0201-51-rohs-l-8-16855356.pdf
footprint 2917(7343) (Chip Capacitor, 2-Leads, Body 7,30x4,30mm, IPC Medium Density)
pins: 1, 2

## ECMF02-4CMX8
designator U??
COMMON MODE CHOKE 2LN SMD ESD; Manufacturer: STMicroelectronics; Filter Type: Signal Line; Number of Lines: 2; DC Resistance (DCR) (Max): 4 Ohm; Supplier 1: Digi-Key; Supplier Part Number 1: 497-13420-1-ND; Manufacturer Part Number: ECMF02-4CMX8; RoHS: RoHS Compliant; Category: Filters; Stock 1: 22638; Pricing 1: 1=0.88, 10=0.793, 100=0.6185, 500=0.5109, 1000=0.40335 (EUR); Packaging: Cut Tape (CT); Part Status: Active; Impedance @ Frequency: -; Inductance @ Frequency: -; Current Rating (Max): -; Voltage Rating - DC: -; Voltage Rating - AC: -; Operating Temperature: -40°C ~ 125°C; Ratings: -; Approvals: -; Features: ESD; Mounting Type: Surface Mount; Size / Dimension: 0.098" L x 0.047" W (2.50mm x 1.20mm); Height (Max): 0.022" (0.55mm); Package / Case: 8-UQFN; ComponentLink1URL: http://www.st.com/content/ccc/resource/technical/document/datasheet/group3/1c/93/cf/72/85/cf/4d/d6/DM00039389/files/DM00039389.pdf/jcr:content/translations/en.DM00039389.pdf; ComponentLink1Description: http://www.st.com/content/ccc/resource/technical/document/datasheet/group3/1c/93/cf/72/85/cf/4d/d6/DM00039389/files/DM00039389.pdf/jcr:content/translations/en.DM00039389.pdf
footprint uQFN-8L (ECMF02-4CMX8)
pins: 1 VBUS, 2 D-, 3 D+, 4 ID, 5 GND, 6 D-, 7 D+, 8 GND

## Elance
designator A?
RFID Reader Module; Manufacturer: STMicroelectronics; Manufacturer Part Number: ST25RU3993-Module1; Exact Component Match: yes; Number of Positions: 20; Connector Type: Male Pin; Pitch: 0.1inch; Supplier 1: STMicroelectronics; Supplier Part Number 1: ST25RU3993-Module1; Supplier 2: Digi-Key; Supplier Part Number 2: 1175-1623-ND; Stock: 26971; Pricing: 1 = 0.81000, 10 = 0.71400, 100 = 0.61600, 960 = 0.49000, 1920 = 0.42000, 5760 = 0.39200, 10560 = 0.37240 (USD); Mount: Surface Mount; Contact Plating: Gold; Package Quantity: 960; Number of Rows: 2; Packaging: Tray; Termination: Solder; Row Spacing: 0.1inch; ComponentLink1URL: http://cnctech.us/idcmatching2.pdf; ComponentLink1Description: http://cnctech.us/idcmatching2.pdf
footprint Elance
pins: 0 EP, 1 GND, 2 PA12, 3 GND, 4 PA9, 5 GND, 6 PC6, 7 GND, 8 PB14, 9 GND, 10 RF, 11 GND, 12 SC, 13 SIO, 14 GND, 15 BT0, 16 RX, 17 TX, 18 NRT, 19 GND, 20 VDC, 21 GND, 22 OAD2, 23 GND, 24 OAD, 25 GND, 26 PB7, 27 GND, 28 1V8_O, 29 GND, 30 PB5, 31 PC2, 32 PB11, 33 PC0, 34 PA4, 35 PB3, 36 PG6, 37 SWO, 38 PD2, 39 PG11, 40 PA11

## ERJ2RKF52R3X
designator R?, comment 52.3R
RES SMD 52R3 1% 0.1W 0402; Manufacturer: Panasonic Electronic Components; Manufacturer Part Number: ERJ-2RKF52R3X; Power (Watts): 0.1W, 1/10W; Temperature Coefficient: ±100ppm/°C; Supplier 1: Digi-Key; Supplier Part Number 1: P52.3LCT-ND; RoHS: RoHS Compliant; Category: Resistors; Stock: 2033; Pricing: 1=0.08, 10=0.036, 100=0.0147, 1000=0.00662, 2500=0.00574, 5000=0.00474 (EUR); Packaging: Cut Tape (CT); Part Status: Active; Tolerance: ±1%; Composition: Thick Film; Features: Automotive AEC-Q200; Operating Temperature: -55°C ~ 155°C; Package / Case: 0402 (1005 Metric); Supplier Device Package: 0402; Size / Dimension: 0.039" L x 0.020" W (1.00mm x 0.50mm); Height - Seated (Max): 0.016" (0.40mm); Failure Rate: -; ComponentLink1URL: https://industrial.panasonic.com/cdbs/www-data/pdf/RDA0000/AOA0000C304.pdf; ComponentLink1Description: https://industrial.panasonic.com/cdbs/www-data/pdf/RDA0000/AOA0000C304.pdf
footprint R0402-RF
pins: 1, 2

## ERJ3EKF1602V
designator R?, comment 16k
PANASONIC ELECTRONIC COMPONENTS         ERJ3EKF1602V             SMD Chip Resistor, Thick Film, 16 kohm, 75 V, 0603 [1608 Metric], 100 mW,  1%, ERJ3E Series; Resistance: 16kR; Power Rating: 100mW; Temperature Coefficient: 100ppm/°C; Voltage Rating: 75V; Supplier 1: Digi-Key; Supplier Part Number 1: P16.0KHCT-ND; Manufacturer: Panasonic; Manufacturer Part Number: ERJ3EKF1602V; RoHS: Yes; Stock: 302027; Pricing: 1 = 0.10000, 10 = 0.06500, 100 = 0.02640, 1000 = 0.01186, 2500 = 0.01029 (USD); Mount: Surface Mount; Case/Package: 0603; Case Code (Imperial): 0603; Case Code (Metric): 1608; Contact Plating: Tin; Min Operating Temperature: -55°C; Max Operating Temperature: 155°C; Tolerance: 1%; Packaging: Tape and Reel; Composition: Thick Film; Voltage Rating (DC): 75V; Number of Terminations: 2; Max Power Dissipation: 100mW; Features: Automotive AEC-Q200; Termination: SMD/SMT; Package Quantity: 1; Military Standard: Not; Length: 1.6mm; Height: 0.022inch; Width: 0.8mm; Depth: 0.8mm; Radiation Hardening: No; Lead Free: Lead Free; REACH SVHC: Unknown; ComponentLink1URL: http://www.farnell.com/datasheets/1678782.pdf; ComponentLink1Description: http://www.farnell.com/datasheets/1678782.pdf; ComponentLink2URL: https://www.alliedelec.com/m/d/623f45ff1957d936ff56d46fd1c28cac.pdf; ComponentLink2Description: https://www.alliedelec.com/m/d/623f45ff1957d936ff56d46fd1c28cac.pdf; ComponentLink3URL: http://www.farnell.com/datasheets/1911175.pdf; ComponentLink3Description: http://www.farnell.com/datasheets/1911175.pdf; ComponentLink4URL: http://www.farnell.com/datasheets/426256.pdf; ComponentLink4Description: http://www.farnell.com/datasheets/426256.pdf
footprint R0603-ss
pins: 1, 2

## ERJ3EKF2204V
designator R?, comment 2M2
Res Thick Film 0603 2.2M Ohm 1% 0.1W(1/10W) ±100ppm/C Molded SMD Automotive Punched T/R; Manufacturer: Panasonic; Manufacturer Part Number: ERJ3EKF2204V; Resistance: 2.2MR; Temperature Coefficient: 100ppm/°C; Max Power Dissipation: 100mW; Voltage Rating (DC): 50V; Voltage Rating: 75V; Supplier 1: Digi-Key; Supplier Part Number 1: P2.20MHCT-ND; RoHS: Yes; Stock: 274802; Pricing: 1 = 0.10000, 10 = 0.06500, 100 = 0.02640, 1000 = 0.01186, 2500 = 0.01029 (USD); Mount: Surface Mount; Case/Package: 0603; Case Code (Metric): 1608; Case Code (Imperial): 0603; Contact Plating: Tin; Min Operating Temperature: -55°C; Max Operating Temperature: 155°C; Tolerance: 1%; Composition: Thick Film; Packaging: Tape and Reel; Number of Terminations: 2; Package Quantity: 1; Features: Automotive AEC-Q200; Power Rating: 100mW; Military Standard: Not; Termination: SMD/SMT; Length: 1.6mm; Height: 0.022inch; Width: 0.031inch; Depth: 0.8mm; Lead Free: Lead Free; REACH SVHC: Unknown; ComponentLink1URL: http://industrial.panasonic.com/www-data/pdf/AOA0000/AOA0000CE2.pdf; ComponentLink1Description: http://industrial.panasonic.com/www-data/pdf/AOA0000/AOA0000CE2.pdf; ComponentLink2URL: http://www.onlinecomponents.com/productFiles/mf-PSC/aoa0000ce2.pdf; ComponentLink2Description: http://www.onlinecomponents.com/productFiles/mf-PSC/aoa0000ce2.pdf; ComponentLink3URL: http://www.alliedelec.com/m/d/623f45ff1957d936ff56d46fd1c28cac.pdf; ComponentLink3Description: http://www.alliedelec.com/m/d/623f45ff1957d936ff56d46fd1c28cac.pdf; ComponentLink4URL: http://www.mouser.com/ds/2/315/AOA0000CE2-37512.pdf; ComponentLink4Description: http://www.mouser.com/ds/2/315/AOA0000CE2-37512.pdf
footprint R0603-ss
pins: 1, 2

## ERJ3EKF5101V
designator r?, comment 5k1
PANASONIC ELECTRONIC COMPONENTS         ERJ3EKF5101V             SMD Chip Resistor, Thick Film, 5.1 kohm, 75 V, 0603 [1608 Metric], 100 mW,  1%, ERJ3E Series; Resistance: 5.1kR; Temperature Coefficient: 100ppm/°C; Max Power Dissipation: 100mW; Voltage Rating (DC): 75V; Supplier 1: Digi-Key; Supplier Part Number 1: P5.10KHCT-ND; Manufacturer: Panasonic; Manufacturer Part Number: ERJ3EKF5101V; RoHS: Yes; Stock: 765928; Pricing: 1 = 0.10000, 10 = 0.06500, 100 = 0.02640, 1000 = 0.01186, 2500 = 0.01029 (USD); Mount: Surface Mount; Case/Package: 0603; Weight: 7.1E-05oz; Case Code (Imperial): 0603; Case Code (Metric): 1608; Contact Plating: Tin; Min Operating Temperature: -55°C; Max Operating Temperature: 155°C; Packaging: Tape and Reel; Tolerance: 1%; Composition: Thick Film; Number of Terminations: 2; Package Quantity: 1; Power Rating: 100mW; Voltage Rating: 75V; Military Standard: Not; Features: Automotive AEC-Q200; Termination: SMD/SMT; Length: 1.6mm; Height: 0.022inch; Width: 0.8mm; Depth: 0.8mm; Radiation Hardening: No; Lead Free: Lead Free; REACH SVHC: No SVHC; ComponentLink1URL: http://industrial.panasonic.com/www-data/pdf/AOA0000/AOA0000CE2.pdf; ComponentLink1Description: http://industrial.panasonic.com/www-data/pdf/AOA0000/AOA0000CE2.pdf; ComponentLink2URL: http://industrial.panasonic.com/www-data/pdf/AOA0000/AOA0000CE3.pdf; ComponentLink2Description: http://industrial.panasonic.com/www-data/pdf/AOA0000/AOA0000CE3.pdf; ComponentLink3URL: http://www.farnell.com/datasheets/1911175.pdf; ComponentLink3Description: http://www.farnell.com/datasheets/1911175.pdf; ComponentLink4URL: http://www.farnell.com/datasheets/1678782.pdf; ComponentLink4Description: http://www.farnell.com/datasheets/1678782.pdf; ComponentLink5URL: https://www.alliedelec.com/m/d/623f45ff1957d936ff56d46fd1c28cac.pdf; ComponentLink5Description: https://www.alliedelec.com/m/d/623f45ff1957d936ff56d46fd1c28cac.pdf
footprint R0603-ss
pins: 1, 2